# EAGLE library part TSP61032 (library PocketCube)
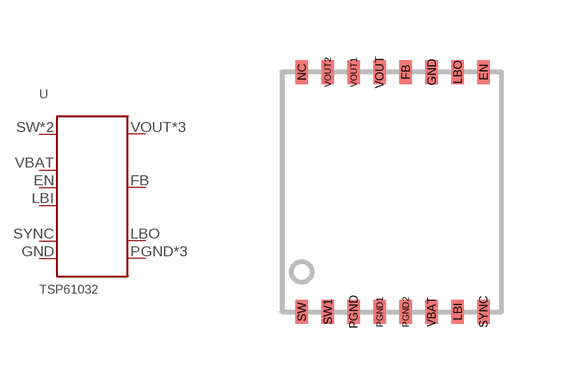
[diagram p23: symbol with the pads of TPS61032; footprint TPS61032]

Designator prefix -

## TSP61032  [TPS61032]
EN  EN
FB  FB
GND  GND
LBI  LBI
LBO  LBO
PGND  PGND
PGND1  PGND
PGND2  PGND
SW  SW
SW1  SW
SYNC  SYNC
VBAT  VBAT
VOUT  VOUT
VOUT1  VOUT
VOUT2  VOUT

## Footprint TPS61032 (pad centres in mm)
smd 0.305 x 0.61: EN 4.55,6; FB 2.6,6; GND 3.25,6; LBI 3.9,0; LBO 3.9,6; NC 0,6; PGND 1.3,0; PGND1 1.95,0; PGND2 2.6,0; SW 0,0; SW1 0.65,0; SYNC 4.55,0; VBAT 3.25,0; VOUT 1.95,6; VOUT1 1.3,6; VOUT2 0.65,6